# EAGLE library part DM1B-DSF-PEJ (library con-Hirose)
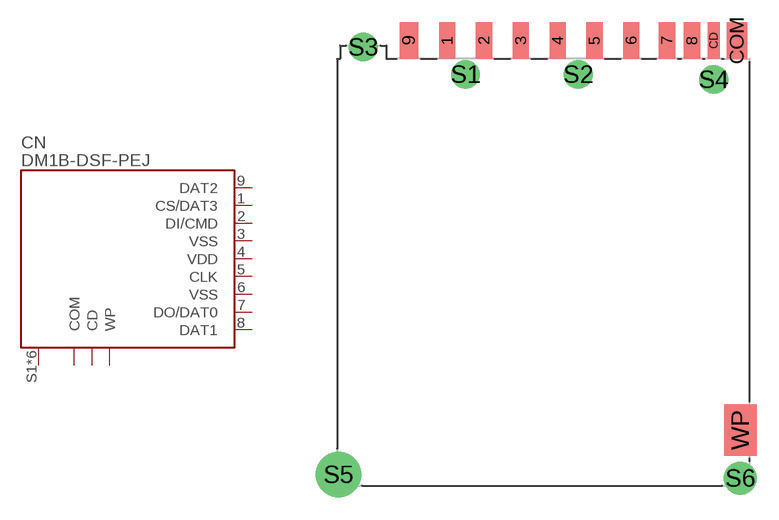
[diagram p21: symbol with the pads of DM1B-DSF-PEJ; footprint DM1B-DSF-PEJ]

Designator prefix CN

## DM1B-DSF-PEJ  [DM1B-DSF-PEJ]
1  CS/DAT3  pas
2  DI/CMD  pas
3  VSS  pas
4  VDD  pas
5  CLK  pas
6  VSS  pas
7  DO/DAT0  pas
8  DAT1  pas
9  DAT2  pas
CD  CD  pas
COM  COM  pas
S1  S  pas
S2  S  pas
S3  S  pas
S4  S  pas
S5  S  pas
S6  S  pas
WP  WP  pas

## Footprint DM1B-DSF-PEJ (pad centres in mm)
smd 1.1 x 2.5: 1 -6.875,15.75; 2 -4.375,15.75; 3 -1.875,15.75; 4 0.625,15.75; 5 3.125,15.75; 6 5.625,15.75; 7 8.05,15.75; 8 9.75,15.75
smd 1.25 x 2.5: 9 -9.47,15.75
smd 0.8 x 2.5: CD 11.23,15.75
smd 1.4 x 2.5: COM 12.8,15.75
drill 1.3: S1 -5.62,13.45; S2 2.03,13.45; S3 -12.57,15.3; S4 11.23,13.1
drill 2.1: S5 -14.25,-13.75
drill 1.5: S6 13.03,-14
smd 2.2 x 3.5: WP 13.03,-10.73